# Altium footprint library ciclo_lib.PcbLib: 2 footprints
Each footprint in its own frame and in the unit in brackets; x right, y up, seen from the top. Pads: shape width x height; smd on the part's side, far side on the other; paste and mask are expansions set on the pad; w line width, h text height; cw(c..) or ccw(c..) is an arc to the next point about the centre after c.
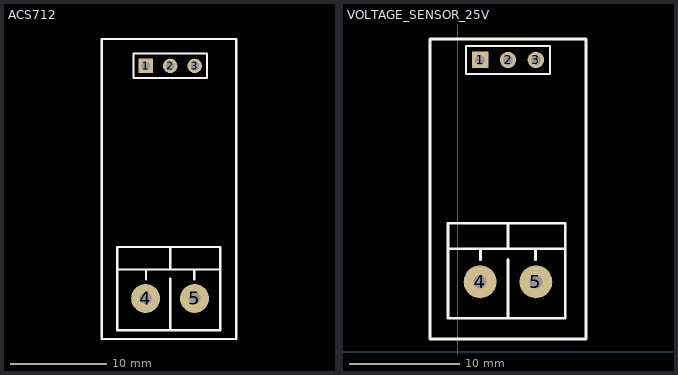
[diagram p0: the footprints below, top view; thin cyan lines are the x and y axes]

## ACS712 [mm]
pads (5):
  rect 1.5x1.5 hole 0.9: 1(-450.596,456.184)
  round 1.5 hole 0.9: 2(-448.056,456.184) 3(-445.516,456.184)
  round 3 hole 1.2: 4(-450.611,432.069) 5(-445.531,432.069)
Top Overlay:
  lines w0.2: -451.866,454.914 -444.246,454.914 -444.246,457.454 -451.866,457.454 -451.866,454.914
  lines w0.254: -453.532,435.069 -442.864,435.069 ; -450.571,434.069 -450.571,435.069 ; -448.07,428.894 -448.071,434.101 ; -448.071,435.069 -448.071,437.403 ; -445.571,434.069 -445.571,435.069 ; -453.532,428.752 -442.864,428.752 ; -453.532,428.752 -453.532,437.403 ; -453.531,428.752 -442.864,428.752 ; -453.531,428.752 -453.532,437.403 ; -453.532,437.403 -442.864,437.403 ; -453.532,437.403 -442.864,437.403 ; -442.864,428.752 -442.864,437.403 ; -442.864,428.752 -442.864,437.403 ; -455.168,427.863 -441.198,427.863 -441.198,458.978 -455.168,458.978 -455.168,427.863
Mechanical 1:
  text "ACS712" at -452.12,445.008 h1.52

## VOLTAGE_SENSOR_25V [mm]
pads (5):
  rect 1.5x1.5 hole 0.9: 1(2.032,26.543)
  round 1.5 hole 0.9: 2(4.572,26.543) 3(7.112,26.543)
  round 3 hole 1.2: 4(2.032,6.35) 5(7.112,6.35)
Top Overlay:
  lines w0.2: 0.762,25.273 0.762,27.813 8.382,27.813 8.382,25.273 0.762,25.273
  lines w0.254: -0.889,9.35 9.779,9.35 ; 2.072,8.35 2.072,9.35 ; 4.572,3.175 4.572,8.382 ; 4.572,9.35 4.572,11.684 ; 7.072,8.35 7.072,9.35 ; -0.889,11.684 9.779,11.684 ; -0.889,11.684 -0.889,3.033 9.779,3.033 ; -0.889,11.684 -0.888,3.033 9.779,3.033 ; -0.889,11.684 9.779,11.684 ; 9.779,3.033 9.779,11.684 ; 9.779,3.033 9.779,11.684 ; -2.54,1.143 11.684,1.143 11.684,28.448 -2.54,28.448 -2.54,1.143